# EAGLE library part TB6612 (library TB6612)
8-bit Microcontroller with Multiprotocol Smart Card Interface Source: Uploaded by Heiko Künzel <heiko.kuenzel@atg-gera.de> from ATG Automatisierungstechnik Gera Mon Mar 10 13:32:48 2003 Atmel-Library mit zusätzlich T83C5121-Prozessor im SSOP24-Package.
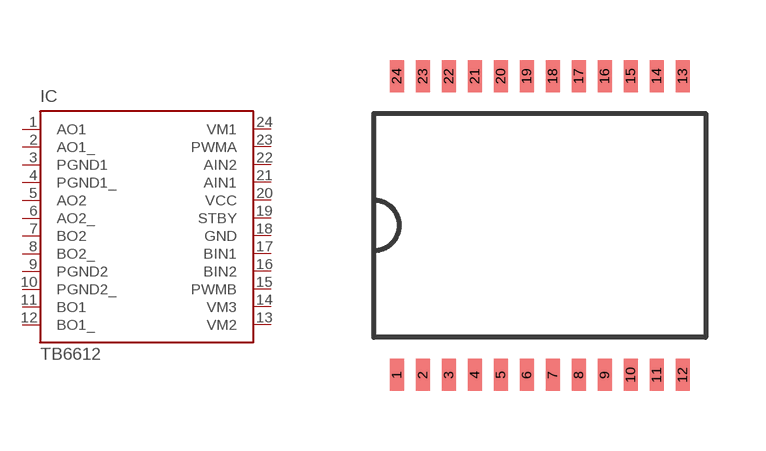
[diagram p0: symbol with the pads of SSOP24; footprint SSOP24]

Designator prefix IC

## TB6612 (OC_FARNELL: unknown; OC_NEWARK: unknown)  [SSOP24]
1  AO1  pwr
2  AO1_  pwr
3  PGND1  pwr
4  PGND1_
5  AO2
6  AO2_
7  BO2
8  BO2_
9  PGND2
10  PGND2_
11  BO1  in
12  BO1_  out
13  VM2
14  VM3
15  PWMB
16  BIN2
17  BIN1
18  GND
19  STBY
20  VCC
21  AIN1  pwr
22  AIN2  pwr
23  PWMA  pas
24  VM1  pwr

## Footprint SSOP24 (pad centres in mm)
SSOP 24 Source: Uploaded by Heiko Künzel <heiko.kuenzel@atg-gera.de> from ATG Automatisierungstechnik Gera Mon Mar 10 13:32:48 2003 Atmel-Library mit zusätzlich T83C5121-Prozessor im SSOP24-Package. Package centre and <NAME & <VALUE placed by librarian@cadsoft.de.
smd 0.35 x 0.8: 1 -3.575,-3.735; 2 -2.925,-3.735; 3 -2.275,-3.735; 4 -1.625,-3.735; 5 -0.975,-3.735; 6 -0.325,-3.735; 7 0.325,-3.735; 8 0.975,-3.735; 9 1.625,-3.735; 10 2.275,-3.735; 11 2.925,-3.735; 12 3.575,-3.735; 13 3.575,3.735; 14 2.925,3.735; 15 2.275,3.735; 16 1.625,3.735; 17 0.975,3.735; 18 0.325,3.735; 19 -0.325,3.735; 20 -0.975,3.735; 21 -1.625,3.735; 22 -2.275,3.735; 23 -2.925,3.735; 24 -3.575,3.735